# EAGLE library part TCAN1046AVDYYRQ1 (library TCAN1046AVDYYRQ1)
Dual CAN Transceiver Source: Datasheet <https://www.ti.com/lit/ds/symlink/tcan1046av-q1.pdf?ts=1705486781922>
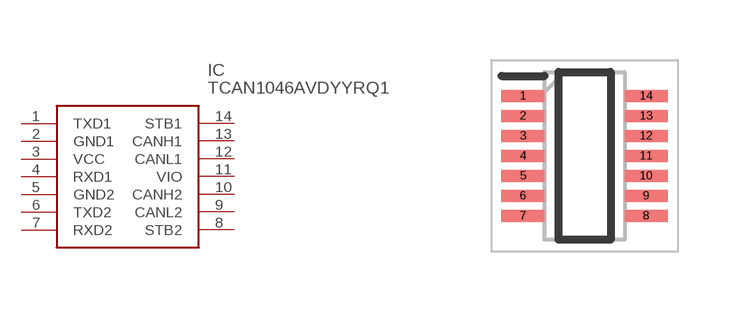
[diagram p0: symbol with the pads of SOP50P326X110-14N; footprint SOP50P326X110-14N]

Designator prefix IC

## TCAN1046AVDYYRQ1 (Arrow_Part_Number: TCAN1046AVDYYRQ1; Arrow_Price-Stock: https://www.arrow.com/en/products/tcan1046avdyyrq1/texas-instruments?utm_currency=USD&region=nac; Description: Dual CAN Transceiver; Height: 1.1mm; Manufacturer_Name: Texas Instruments; Manufacturer_Part_Number: TCAN1046AVDYYRQ1; Mouser_Part_Number: 595-TCAN1046AVDYYRQ1; Mouser_Price-Stock: https://www.mouser.co.uk/ProductDetail/Texas-Instruments/TCAN1046AVDYYRQ1?qs=doiCPypUmgHWM9fDrxlKTw%3D%3D)  [SOP50P326X110-14N]
1  TXD1  in
2  GND1  pwr
3  VCC
4  RXD1  out
5  GND2  pwr
6  TXD2  in
7  RXD2  out
8  STB2  in
9  CANL2
10  CANH2
11  VIO  pwr
12  CANL1
13  CANH1
14  STB1  in

## Footprint SOP50P326X110-14N (pad centres in mm)
TCAN1146DYYRQ1
smd 1.075 x 0.3: 1 -1.538,1.5; 2 -1.538,1; 3 -1.538,0.5; 4 -1.538,0; 5 -1.538,-0.5; 6 -1.538,-1; 7 -1.538,-1.5; 8 1.538,-1.5; 9 1.538,-1; 10 1.538,-0.5; 11 1.538,0; 12 1.538,0.5; 13 1.538,1; 14 1.538,1.5